# Altium integrated library Analog Devices Data Converters Analog-to-Digital Converters.IntLib: 2404 symbols (part 220 of 346)
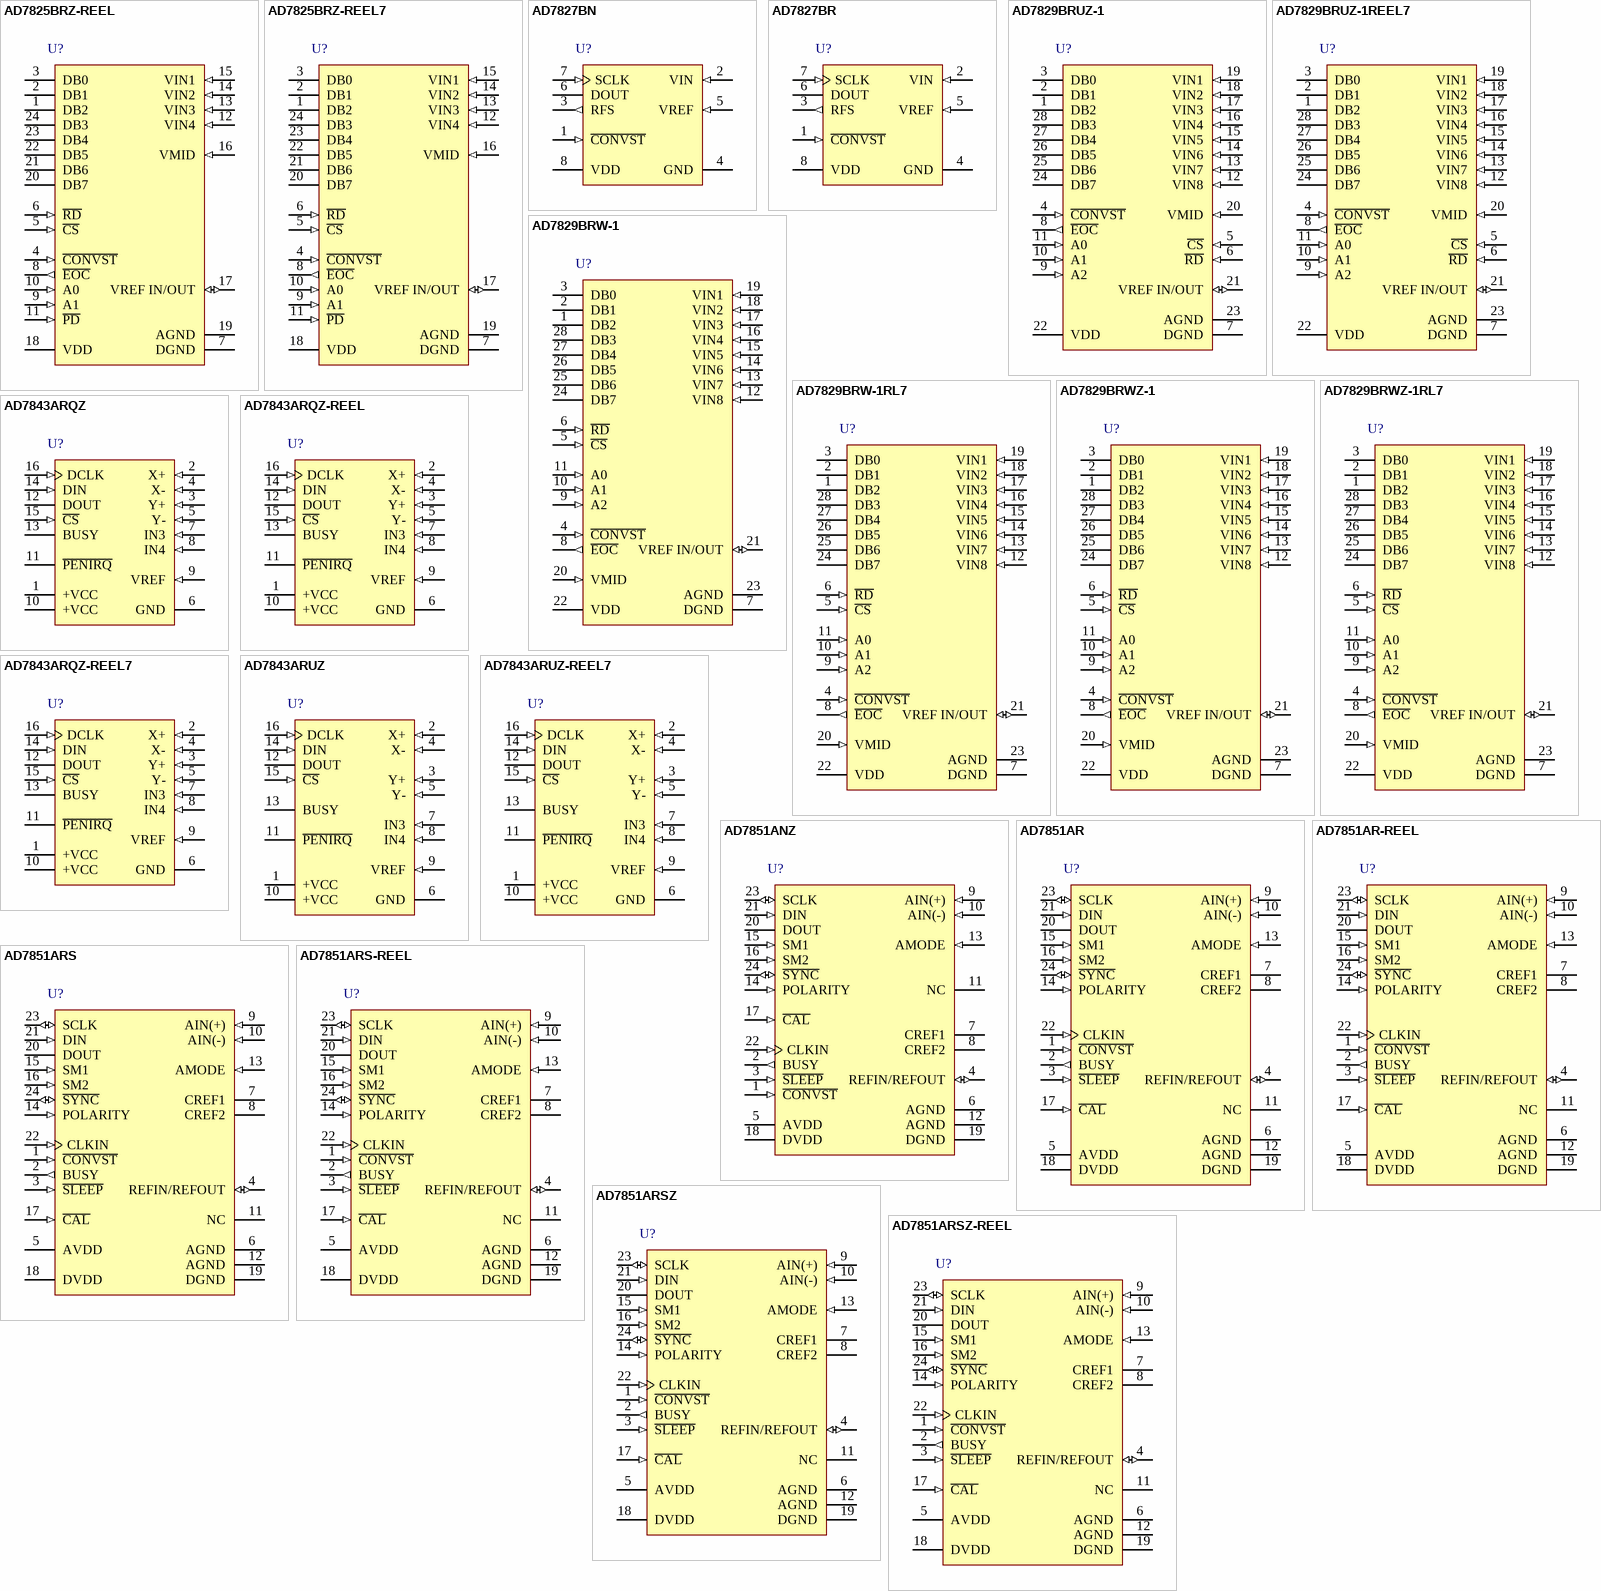
[diagram p273: symbols AD7825BRZ-REEL to AD7851ARSZ-REEL]

## AD7825BRZ-REEL7
designator U?
Quad 8-Bit Sampling Analog-to-Digital Converter with Parallel Interface, 3 V / 5 V, 2MSPS, -40 to +85 degC, RW-24, Pb-Free, Reel; Generic Part Number: AD7825; Manufacturer: Analog Devices; PartNumber: AD7825BRZ-REEL7; Resolution (Bits): 8; Channels: 4; Throughput Rate (SPS): 2M; Interface: Par; DatasheetVersion: Rev.C; PackageVersion: 060706-A; PackageReference: RW-24; PackageDescription: 24-Lead Standard Small Outline Package [SOIC_W]; Supplier 1: Digi-Key; Supplier Part Number 1: AD7825BRZ-REEL7-ND; RoHS: Y; Packing: Reel; Mounting Technology: Surface Mount; Code_JEDEC: MS-013-AD; ComponentLink1Description: Manufacturer URL; ComponentLink1URL: http://www.analog.com/en/index.html; ComponentLink2Description: Datasheet; ComponentLink2URL: http://www.analog.com/static/imported-files/data_sheets/AD7822_7825_7829.pdf; ComponentLink3Description: Package Specification; ComponentLink3URL: http://www.analog.com/static/imported-files/packages/33665150946139RW_24.pdf; ComponentLink4Description: Product URL; ComponentLink4URL: http://www.analog.com/en/analog-to-digital-converters/ad-converters/ad7825/products/product.html
footprint RW-24_N (SOIC, 24-Leads, Body 15.4x7.5mm, Pitch 1.27mm, IPC Medium Density)
footprint RW-24_L (SOIC, 24-Leads, Body 15.4x7.5mm, Pitch 1.27mm, IPC High Density)
footprint RW-24_M (SOIC, 24-Leads, Body 15.4x7.5mm, Pitch 1.27mm, IPC Low Density)
pins: 1 DB2 (hiz) "Data Output Lines. They are normally held in a high impedance state. Data is driven onto the data bus when both R\D\ and C\S\ go active low.", 2 DB1 (hiz) "Data Output Lines. They are normally held in a high impedance state. Data is driven onto the data bus when both R\D\ and C\S\ go active low.", 3 DB0 (hiz) "Data Output Lines. They are normally held in a high impedance state. Data is driven onto the data bus when both R\D\ and C\S\ go active low.", 4 ~{CONVST} (in) "Logic Input Signal. The convert start signal initiates an 8-bit analog-to-digital conversion on the falling edge of this signal. The falling edge of this signal places the track-and-hold in hold mode. The track-and-hold goes (See Datasheet)", 5 ~{CS} (in) "Logic Input Signal. The chip select signal is used to enable the parallel port of the AD7822/AD7825/AD7829. This is necessary if the ADC is sharing a common data bus with another device.", 6 ~{RD} (in) "Logic Input Signal. The read signal is used to take the output buffers out of their high impedance state and drive data onto the data bus. The signal is internally gated with the C\S\ signal. Both R\D\ and C\S\ must be logic (See Datasheet)", 7 DGND (power) "Digital Ground. Ground reference for digital circuitry.", 8 ~{EOC} (out) "Logic Output. The end-of-conversion signal indicates when a conversion has finished. The signal can be used to interrupt a microcontroller when a conversion has finished or latch data into a gate array (see the Parallel (See Datasheet)", 9 A1 (in) "Channel Address Inputs. The address of the next multiplexer channel must be present on these inputs when the R\D\ signal goes low.", 10 A0 (in) "Channel Address Inputs. The address of the next multiplexer channel must be present on these inputs when the R\D\ signal goes low.", 11 ~{PD} (in) "Logic Input. The power-down pin is present on the AD7822 and AD7825 only. Bringing the P\D\ pin low places the AD7822 and AD7825 in power-down mode. The ADCs power up when P\D\ is brought logic high again.", 12 VIN4 (in) "Analog Input Channels. The AD7822 has a single input channel; the AD7825 and AD7829 have four and eight analog input channels, respectively. The inputs have an input span of 2.5 V and 2 V depending on the supply voltage (See Datasheet)", 13 VIN3 (in) "Analog Input Channels. The AD7822 has a single input channel; the AD7825 and AD7829 have four and eight analog input channels, respectively. The inputs have an input span of 2.5 V and 2 V depending on the supply voltage (See Datasheet)", 14 VIN2 (in) "Analog Input Channels. The AD7822 has a single input channel; the AD7825 and AD7829 have four and eight analog input channels, respectively. The inputs have an input span of 2.5 V and 2 V depending on the supply voltage (See Datasheet)", 15 VIN1 (in) "Analog Input Channels. The AD7822 has a single input channel; the AD7825 and AD7829 have four and eight analog input channels, respectively. The inputs have an input span of 2.5 V and 2 V depending on the supply voltage (See Datasheet)", 16 VMID (in) "The VMID pin, if connected, is used to center the analog input span anywhere in the range of AGND to VDD (see the Analog Input section).", 17 VREF IN/OUT (io) "Analog Input and Output. An external reference can be connected to the AD7822/AD7825/AD7829 at this pin. The on-chip reference is also available at this pin. When using the internal reference, this pin can be left (See Datasheet)", 18 VDD (power) "Positive Supply Voltage, 3 V +/- 10% and 5 V +/- 10%.", 19 AGND (power) "Analog Ground. Ground reference for track-and-hold, comparators, reference circuit, and multiplexer.", 20 DB7 (hiz) "Data Output Lines. They are normally held in a high impedance state. Data is driven onto the data bus when both R\D\ and C\S\ go active low.", 21 DB6 (hiz) "Data Output Lines. They are normally held in a high impedance state. Data is driven onto the data bus when both R\D\ and C\S\ go active low.", 22 DB5 (hiz) "Data Output Lines. They are normally held in a high impedance state. Data is driven onto the data bus when both R\D\ and C\S\ go active low.", 23 DB4 (hiz) "Data Output Lines. They are normally held in a high impedance state. Data is driven onto the data bus when both R\D\ and C\S\ go active low.", 24 DB3 (hiz) "Data Output Lines. They are normally held in a high impedance state. Data is driven onto the data bus when both R\D\ and C\S\ go active low."

## AD7827BN
designator U?
Single 8-Bit Sampling Analog-to-Digital Converter with Serial Interface, 3 V / 5 V, 1MSPS, -40 to +105 degC, N-8; Generic Part Number: AD7827; Manufacturer: Analog Devices; PartNumber: AD7827BN; Resolution (Bits): 8; Channels: 1; Throughput Rate (SPS): 1M; Interface: Ser; DatasheetVersion: Rev.0; PackageVersion: 070606-A; PackageReference: N-8; PackageDescription: 8-Lead Plastic Dual In-Line Package [PDIP] Narrow Body; RoHS: N; Mounting Technology: Through-hole; Code_JEDEC: MS-001; ComponentLink1Description: Manufacturer URL; ComponentLink1URL: http://www.analog.com/en/index.html; ComponentLink2Description: Datasheet; ComponentLink2URL: http://www.analog.com/static/imported-files/data_sheets/AD7827.pdf; ComponentLink3Description: Package Specification; ComponentLink3URL: http://www.analog.com/static/imported-files/packages/PKG_PDF/PDIP(N)/N_8.pdf; ComponentLink4Description: Product URL; ComponentLink4URL: http://www.analog.com/en/analog-to-digital-converters/ad-converters/ad7827/products/product.html
footprint N-8 (DIP, 8-Leads, Row Spacing 7.62mm, Pitch 2.54mm, Body 9.6x6.6mm)
pins: 1 ~{CONVST} (in) "Convert Start.Puts the track-and-hold into hold mode and initiates a conversion.The state of this pin at the end of conversion also determines whether or not the part is powered down.", 2 VIN (in) "Analog Input is applied here.", 3 RFS (out) "Receive Frame Sync. This is an output. When this signal goes logic high at the end of a conversion, the DSP starts latching in data on the next cycle of SCLK.", 4 GND (power) "Ground reference for analog and digital circuitry.", 5 VREF (in) "Reference Input.", 6 DOUT (hiz) "Serial Data is shifted out on this pin.Data is clocked out by the rising edges of SCLK.", 7 SCLK (in) "SCLK Serial Clock. An external serial clock is applied here. The clock must be continuous so the RFS (frame SYNC) can be synchronized to the clock for high speed data transfers. (See Microprocessor Interfacing section.)", 8 VDD (power) "Positive Supply Voltage 3 V/5 V +/- 10%."

## AD7827BR
designator U?
Single 8-Bit Sampling Analog-to-Digital Converter with Serial Interface, 3 V / 5 V, 1MSPS, -40 to +105 degC, SO-8; Generic Part Number: AD7827; Manufacturer: Analog Devices; PartNumber: AD7827BR; Resolution (Bits): 8; Channels: 1; Throughput Rate (SPS): 1M; Interface: Ser; DatasheetVersion: Rev.0; PackageVersion: 2010; PackageReference: SO-8; PackageDescription: 8-Pin Small Outline Integrated Circuit 1.27 mm Pitch, Narrow Body; RoHS: N; Mounting Technology: Surface Mount; Code_JEDEC: MS-012-AA; Code_IPC: SOIC127P600-8; ComponentLink1Description: Manufacturer URL; ComponentLink1URL: http://www.analog.com/en/index.html; ComponentLink2Description: Datasheet; ComponentLink2URL: http://www.analog.com/static/imported-files/data_sheets/AD7827.pdf; ComponentLink3Description: Package Specification; ComponentLink3URL: SO-8; ComponentLink4Description: Product URL; ComponentLink4URL: http://www.analog.com/en/analog-to-digital-converters/ad-converters/ad7827/products/product.html
footprint SO-8_N (SOIC, 8-Leads, Body 4.9x3.9mm, Pitch 1.27mm, IPC Medium Density)
footprint SO-8_L (SOIC, 8-Leads, Body 4.9x3.9mm, Pitch 1.27mm, IPC High Density)
footprint SO-8_M (SOIC, 8-Leads, Body 4.9x3.9mm, Pitch 1.27mm, IPC Low Density)
pins: 1 ~{CONVST} (in) "Convert Start.Puts the track-and-hold into hold mode and initiates a conversion.The state of this pin at the end of conversion also determines whether or not the part is powered down.", 2 VIN (in) "Analog Input is applied here.", 3 RFS (out) "Receive Frame Sync. This is an output. When this signal goes logic high at the end of a conversion, the DSP starts latching in data on the next cycle of SCLK.", 4 GND (power) "GND Ground reference for analog and digital circuitry.", 5 VREF (in) "Reference Input.", 6 DOUT (hiz) "Serial Data is shifted out on this pin.Data is clocked out by the rising edges of SCLK.", 7 SCLK (in) "SCLK Serial Clock. An external serial clock is applied here. The clock must be continuous so the RFS (frame SYNC) can be synchronized to the clock for high speed data transfers. (See Microprocessor Interfacing section.)", 8 VDD (power) "Positive Supply Voltage 3 V/5 V +/- 10%."

## AD7829BRUZ-1
designator U?
Octal 8-Bit Analog-to-Digital Converter with Parallel Interface,3 V, 2MSPS, -40 to +85 degC, RU-28, Pb-Free, Tube; Generic Part Number: AD7829-1; Manufacturer: Analog Devices; PartNumber: AD7829BRUZ-1; Resolution (Bits): 8; Throughput Rate (SPS): 2M; Interface: Par; DatasheetVersion: Rev.0; PackageVersion: 2005; PackageReference: RU-28; PackageDescription: 28-Lead Thin Shrink Small Outline Package [TSSOP]; Supplier 1: Digi-Key; Supplier Part Number 1: AD7829BRUZ-1-ND; Supplier 2: Mouser; Supplier Part Number 2: 584-AD7829BRUZ-1; Channels: 8; RoHS: Y; Packing: Tube; Mounting Technology: Surface Mount; Code_JEDEC: MO-153-AE; ComponentLink1Description: Manufacturer URL; ComponentLink1URL: http://www.analog.com/en/index.html; ComponentLink2Description: Datasheet; ComponentLink2URL: http://www.analog.com/static/imported-files/data_sheets/AD7829-1.pdf; ComponentLink3Description: Package Specification; ComponentLink3URL: http://www.analog.com/static/imported-files/packages/249854663RU_28.pdf; ComponentLink4Description: Product URL; ComponentLink4URL: http://www.analog.com/en/analog-to-digital-converters/ad-converters/ad7829-1/products/product.html
footprint RU-28_N (TSOP, 28-Leads, Body 9.7x4.4mm, Pitch 0.65mm, IPC Medium Density)
footprint RU-28_L (TSOP, 28-Leads, Body 9.7x4.4mm, Pitch 0.65mm, IPC High Density)
footprint RU-28_M (TSOP, 28-Leads, Body 9.7x4.4mm, Pitch 0.65mm, IPC Low Density)
pins: 1 DB2 (hiz) "Data Output Lines. They are normally held in a high impedance state. Data is driven onto the data bus when both R\D\ and C\S\ go active low.", 2 DB1 (hiz) "Data Output Lines. They are normally held in a high impedance state. Data is driven onto the data bus when both R\D\ and C\S\ go active low.", 3 DB0 (hiz) "Data Output Lines. They are normally held in a high impedance state. Data is driven onto the data bus when both R\D\ and C\S\ go active low.", 4 ~{CONVST} (in) "Logic Input Signal. The convert start signal initiates an 8-bit analog-to-digital conversion on the falling edge  of this signal. The falling edge of this signal places the track/hold in hold mode. The track/hold goes into (See Datasheet)", 5 ~{CS} (in) "Logic Input Signal. The chip select signal is used to enable the parallel port of the AD7829. This is necessary if the ADC is sharing a common data bus with another device.", 6 ~{RD} (in) "Logic Input Signal. The read signal is used to take the output buffers out of their high impedance state and drive data onto the data bus. The signal is internally gated with the CS signal. Both R\D\ and C\S\ must be logic (See Datasheet)", 7 DGND (power) "Digital Ground. Ground reference for digital circuitry.", 8 ~{EOC} (out) "Logic Output. The end of conversion signal indicates when a conversion has finished. The signal can be used  to interrupt a microcontroller when a conversion has finished or latch data into a gate array (see the Parallel (See Datasheet)", 9 A2 (in) "Channel Address Inputs. The address of the next multiplexer channel must be present on these inputs when the R\D\ signal goes low.", 10 A1 (in) "Channel Address Inputs. The address of the next multiplexer channel must be present on these inputs when the R\D\ signal goes low.", 11 A0 (in) "Channel Address Inputs. The address of the next multiplexer channel must be present on these inputs when the R\D\ signal goes low.", 12 VIN8 (in) "Analog Input Channels. The AD7829-1 has eight analog input channels. The inputs have an input span of 2.5 V and 2 V, depending on the supply voltage (VDD). This span can be centered anywhere in the range AGND to VDD using (See Datasheet)", 13 VIN7 (in) "Analog Input Channels. The AD7829-1 has eight analog input channels. The inputs have an input span of 2.5 V and 2 V, depending on the supply voltage (VDD). This span can be centered anywhere in the range AGND to VDD using (See Datasheet)", 14 VIN6 (in) "Analog Input Channels. The AD7829-1 has eight analog input channels. The inputs have an input span of 2.5 V and 2 V, depending on the supply voltage (VDD). This span can be centered anywhere in the range AGND to VDD using (See Datasheet)", 15 VIN5 (in) "Analog Input Channels. The AD7829-1 has eight analog input channels. The inputs have an input span of 2.5 V and 2 V, depending on the supply voltage (VDD). This span can be centered anywhere in the range AGND to VDD using (See Datasheet)", 16 VIN4 (in) "Analog Input Channels. The AD7829-1 has eight analog input channels. The inputs have an input span of 2.5 V and 2 V, depending on the supply voltage (VDD). This span can be centered anywhere in the range AGND to VDD using (See Datasheet)", 17 VIN3 (in) "Analog Input Channels. The AD7829-1 has eight analog input channels. The inputs have an input span of 2.5 V and 2 V, depending on the supply voltage (VDD). This span can be centered anywhere in the range AGND to VDD using (See Datasheet)", 18 VIN2 (in) "Analog Input Channels. The AD7829-1 has eight analog input channels. The inputs have an input span of 2.5 V and 2 V, depending on the supply voltage (VDD). This span can be centered anywhere in the range AGND to VDD using (See Datasheet)", 19 VIN1 (in) "Analog Input Channels. The AD7829-1 has eight analog input channels. The inputs have an input span of 2.5 V and 2 V, depending on the supply voltage (VDD). This span can be centered anywhere in the range AGND to VDD using (See Datasheet)", 20 VMID (in) "The VMID pin, if connected, is used to center the analog input span anywhere in the range of AGND to VDD (see the Analog Input section).", 21 VREF IN/OUT (io) "Analog Input and Output. An external reference can be connected to the AD7829-1 at this pin. The on-chip reference is also available at this pin. When using the internal reference, this pin can be left unconnected or, in (See Datasheet)", 22 VDD (power) "Positive Supply Voltage, 3 V +/- 10% and 5 V +/- 10%.", 23 AGND (power) "Analog Ground. Ground reference for track/hold, comparators, reference circuit, and multiplexer.", 24 DB7 (hiz) "Data Output Lines. They are normally held in a high impedance state. Data is driven onto the data bus when both R\D\ and C\S\ go active low.", 25 DB6 (hiz) "Data Output Lines. They are normally held in a high impedance state. Data is driven onto the data bus when both R\D\ and C\S\ go active low.", 26 DB5 (hiz) "Data Output Lines. They are normally held in a high impedance state. Data is driven onto the data bus when both R\D\ and C\S\ go active low.", 27 DB4 (hiz) "Data Output Lines. They are normally held in a high impedance state. Data is driven onto the data bus when both R\D\ and C\S\ go active low.", 28 DB3 (hiz) "Data Output Lines. They are normally held in a high impedance state. Data is driven onto the data bus when both R\D\ and C\S\ go active low."

## AD7829BRUZ-1REEL7
designator U?
Octal 8-Bit Analog-to-Digital Converter with Parallel Interface,3 V, 2MSPS, -40 to +85 degC, RU-28, Pb-Free, Reel; Generic Part Number: AD7829-1; Manufacturer: Analog Devices; PartNumber: AD7829BRUZ-1REEL7; Resolution (Bits): 8; Throughput Rate (SPS): 2M; Interface: Par; DatasheetVersion: Rev.0; PackageVersion: 2005; PackageReference: RU-28; PackageDescription: 28-Lead Thin Shrink Small Outline Package [TSSOP]; Supplier 1: Digi-Key; Supplier Part Number 1: AD7829BRUZ-1REEL7-ND; Supplier 2: Mouser; Supplier Part Number 2: 584-AD7829BRUZ-1R7; Channels: 8; RoHS: Y; Packing: Reel; Mounting Technology: Surface Mount; Code_JEDEC: MO-153-AE; ComponentLink1Description: Manufacturer URL; ComponentLink1URL: http://www.analog.com/en/index.html; ComponentLink2Description: Datasheet; ComponentLink2URL: http://www.analog.com/static/imported-files/data_sheets/AD7829-1.pdf; ComponentLink3Description: Package Specification; ComponentLink3URL: http://www.analog.com/static/imported-files/packages/249854663RU_28.pdf; ComponentLink4Description: Product URL; ComponentLink4URL: http://www.analog.com/en/analog-to-digital-converters/ad-converters/ad7829-1/products/product.html
footprint RU-28_N (TSOP, 28-Leads, Body 9.7x4.4mm, Pitch 0.65mm, IPC Medium Density)
footprint RU-28_L (TSOP, 28-Leads, Body 9.7x4.4mm, Pitch 0.65mm, IPC High Density)
footprint RU-28_M (TSOP, 28-Leads, Body 9.7x4.4mm, Pitch 0.65mm, IPC Low Density)
pins: 1 DB2 (hiz) "Data Output Lines. They are normally held in a high impedance state. Data is driven onto the data bus when both R\D\ and C\S\ go active low.", 2 DB1 (hiz) "Data Output Lines. They are normally held in a high impedance state. Data is driven onto the data bus when both R\D\ and C\S\ go active low.", 3 DB0 (hiz) "Data Output Lines. They are normally held in a high impedance state. Data is driven onto the data bus when both R\D\ and C\S\ go active low.", 4 ~{CONVST} (in) "Logic Input Signal. The convert start signal initiates an 8-bit analog-to-digital conversion on the falling edge  of this signal. The falling edge of this signal places the track/hold in hold mode. The track/hold goes into (See Datasheet)", 5 ~{CS} (in) "Logic Input Signal. The chip select signal is used to enable the parallel port of the AD7829. This is necessary if the ADC is sharing a common data bus with another device.", 6 ~{RD} (in) "Logic Input Signal. The read signal is used to take the output buffers out of their high impedance state and drive data onto the data bus. The signal is internally gated with the CS signal. Both R\D\ and C\S\ must be logic (See Datasheet)", 7 DGND (power) "Digital Ground. Ground reference for digital circuitry.", 8 ~{EOC} (out) "Logic Output. The end of conversion signal indicates when a conversion has finished. The signal can be used  to interrupt a microcontroller when a conversion has finished or latch data into a gate array (see the Parallel (See Datasheet)", 9 A2 (in) "Channel Address Inputs. The address of the next multiplexer channel must be present on these inputs when the R\D\ signal goes low.", 10 A1 (in) "Channel Address Inputs. The address of the next multiplexer channel must be present on these inputs when the R\D\ signal goes low.", 11 A0 (in) "Channel Address Inputs. The address of the next multiplexer channel must be present on these inputs when the R\D\ signal goes low.", 12 VIN8 (in) "Analog Input Channels. The AD7829-1 has eight analog input channels. The inputs have an input span of 2.5 V and 2 V, depending on the supply voltage (VDD). This span can be centered anywhere in the range AGND to VDD using (See Datasheet)", 13 VIN7 (in) "Analog Input Channels. The AD7829-1 has eight analog input channels. The inputs have an input span of 2.5 V and 2 V, depending on the supply voltage (VDD). This span can be centered anywhere in the range AGND to VDD using (See Datasheet)", 14 VIN6 (in) "Analog Input Channels. The AD7829-1 has eight analog input channels. The inputs have an input span of 2.5 V and 2 V, depending on the supply voltage (VDD). This span can be centered anywhere in the range AGND to VDD using (See Datasheet)", 15 VIN5 (in) "Analog Input Channels. The AD7829-1 has eight analog input channels. The inputs have an input span of 2.5 V and 2 V, depending on the supply voltage (VDD). This span can be centered anywhere in the range AGND to VDD using (See Datasheet)", 16 VIN4 (in) "Analog Input Channels. The AD7829-1 has eight analog input channels. The inputs have an input span of 2.5 V and 2 V, depending on the supply voltage (VDD). This span can be centered anywhere in the range AGND to VDD using (See Datasheet)", 17 VIN3 (in) "Analog Input Channels. The AD7829-1 has eight analog input channels. The inputs have an input span of 2.5 V and 2 V, depending on the supply voltage (VDD). This span can be centered anywhere in the range AGND to VDD using (See Datasheet)", 18 VIN2 (in) "Analog Input Channels. The AD7829-1 has eight analog input channels. The inputs have an input span of 2.5 V and 2 V, depending on the supply voltage (VDD). This span can be centered anywhere in the range AGND to VDD using (See Datasheet)", 19 VIN1 (in) "Analog Input Channels. The AD7829-1 has eight analog input channels. The inputs have an input span of 2.5 V and 2 V, depending on the supply voltage (VDD). This span can be centered anywhere in the range AGND to VDD using (See Datasheet)", 20 VMID (in) "The VMID pin, if connected, is used to center the analog input span anywhere in the range of AGND to VDD (see the Analog Input section).", 21 VREF IN/OUT (io) "Analog Input and Output. An external reference can be connected to the AD7829-1 at this pin. The on-chip reference is also available at this pin. When using the internal reference, this pin can be left unconnected or, in (See Datasheet)", 22 VDD (power) "Positive Supply Voltage, 3 V +/- 10% and 5 V +/- 10%.", 23 AGND (power) "Analog Ground. Ground reference for track/hold, comparators, reference circuit, and multiplexer.", 24 DB7 (hiz) "Data Output Lines. They are normally held in a high impedance state. Data is driven onto the data bus when both R\D\ and C\S\ go active low.", 25 DB6 (hiz) "Data Output Lines. They are normally held in a high impedance state. Data is driven onto the data bus when both R\D\ and C\S\ go active low.", 26 DB5 (hiz) "Data Output Lines. They are normally held in a high impedance state. Data is driven onto the data bus when both R\D\ and C\S\ go active low.", 27 DB4 (hiz) "Data Output Lines. They are normally held in a high impedance state. Data is driven onto the data bus when both R\D\ and C\S\ go active low.", 28 DB3 (hiz) "Data Output Lines. They are normally held in a high impedance state. Data is driven onto the data bus when both R\D\ and C\S\ go active low."

## AD7829BRW-1
designator U?
Octal 8-Bit Analog-to-Digital Converter with Parallel Interface,3 V, 2MSPS, -40 to +85 degC, RW-28, Tube; Generic Part Number: AD7829-1; Manufacturer: Analog Devices; PartNumber: AD7829BRW-1; Resolution (Bits): 8; Throughput Rate (SPS): 2M; Interface: Par; DatasheetVersion: Rev.0; PackageVersion: 060706-A; PackageReference: RW-28; PackageDescription: 28-Lead Standard Small Outline Package [SOIC_W]; Supplier 1: Digi-Key; Supplier Part Number 1: AD7829BRW-1-ND; Supplier 2: Mouser; Supplier Part Number 2: 584-AD7829BRW-1; Channels: 8; RoHS: N; Packing: Tube; Mounting Technology: Surface Mount; Code_JEDEC: MS-013-AE; ComponentLink1Description: Manufacturer URL; ComponentLink1URL: http://www.analog.com/en/index.html; ComponentLink2Description: Datasheet; ComponentLink2URL: http://www.analog.com/static/imported-files/data_sheets/AD7829-1.pdf; ComponentLink3Description: Package Specification; ComponentLink3URL: http://www.analog.com/static/imported-files/packages/35833120341221RW_28.pdf; ComponentLink4Description: Product URL; ComponentLink4URL: http://www.analog.com/en/analog-to-digital-converters/ad-converters/ad7829-1/products/product.html
footprint RW-28_N (SOIC, 28-Leads, Body 17.9x7.5mm, Pitch 1.27mm, IPC Medium Density)
footprint RW-28_L (SOIC, 28-Leads, Body 17.9x7.5mm, Pitch 1.27mm, IPC High Density)
footprint RW-28_M (SOIC, 28-Leads, Body 17.9x7.5mm, Pitch 1.27mm, IPC Low Density)
pins: 1 DB2 (hiz) "Data Output Lines. They are normally held in a high impedance state. Data is driven onto the data bus when both R\D\ and C\S\ go active low.", 2 DB1 (hiz) "Data Output Lines. They are normally held in a high impedance state. Data is driven onto the data bus when both R\D\ and C\S\ go active low.", 3 DB0 (hiz) "Data Output Lines. They are normally held in a high impedance state. Data is driven onto the data bus when both R\D\ and C\S\ go active low.", 4 ~{CONVST} (in) "Logic Input Signal. The convert start signal initiates an 8-bit analog-to-digital conversion on the falling edge of this signal. The falling edge of this signal places the track/hold in hold mode. The track/hold goes into (See Datasheet)", 5 ~{CS} (in) "Logic Input Signal. The chip select signal is used to enable the parallel port of the AD7829. This is necessary if the ADC is sharing a common data bus with another device.", 6 ~{RD} (in) "Logic Input Signal. The read signal is used to take the output buffers out of their high impedance state and drive data onto the data bus. The signal is internally gated with the CS signal. Both R\D\ and C\S\ must be logic (See Datasheet)", 7 DGND (power) "Digital Ground. Ground reference for digital circuitry.", 8 ~{EOC} (out) "Logic Output. The end of conversion signal indicates when a conversion has finished. The signal can be used to interrupt a microcontroller when a conversion has finished or latch data into a gate array (see the Parallel (See Datasheet)", 9 A2 (in) "Channel Address Inputs. The address of the next multiplexer channel must be present on these inputs when the R\D\ signal goes low.", 10 A1 (in) "Channel Address Inputs. The address of the next multiplexer channel must be present on these inputs when the R\D\ signal goes low.", 11 A0 (in) "Channel Address Inputs. The address of the next multiplexer channel must be present on these inputs when the R\D\ signal goes low.", 12 VIN8 (in) "Analog Input Channels. The AD7829-1 has eight analog input channels. The inputs have an input span of 2.5 V and 2 V, depending on the supply voltage (VDD). This span can be centered anywhere in the range AGND to VDD using (See Datasheet)", 13 VIN7 (in) "Analog Input Channels. The AD7829-1 has eight analog input channels. The inputs have an input span of 2.5 V and 2 V, depending on the supply voltage (VDD). This span can be centered anywhere in the range AGND to VDD using (See Datasheet)", 14 VIN6 (in) "Analog Input Channels. The AD7829-1 has eight analog input channels. The inputs have an input span of 2.5 V and 2 V, depending on the supply voltage (VDD). This span can be centered anywhere in the range AGND to VDD using (See Datasheet)", 15 VIN5 (in) "Analog Input Channels. The AD7829-1 has eight analog input channels. The inputs have an input span of 2.5 V and 2 V, depending on the supply voltage (VDD). This span can be centered anywhere in the range AGND to VDD using (See Datasheet)", 16 VIN4 (in) "Analog Input Channels. The AD7829-1 has eight analog input channels. The inputs have an input span of 2.5 V and 2 V, depending on the supply voltage (VDD). This span can be centered anywhere in the range AGND to VDD using (See Datasheet)", 17 VIN3 (in) "Analog Input Channels. The AD7829-1 has eight analog input channels. The inputs have an input span of 2.5 V and 2 V, depending on the supply voltage (VDD). This span can be centered anywhere in the range AGND to VDD using (See Datasheet)", 18 VIN2 (in) "Analog Input Channels. The AD7829-1 has eight analog input channels. The inputs have an input span of 2.5 V and 2 V, depending on the supply voltage (VDD). This span can be centered anywhere in the range AGND to VDD using (See Datasheet)", 19 VIN1 (in) "Analog Input Channels. The AD7829-1 has eight analog input channels. The inputs have an input span of 2.5 V and 2 V, depending on the supply voltage (VDD). This span can be centered anywhere in the range AGND to VDD using (See Datasheet)", 20 VMID (in) "The VMID pin, if connected, is used to center the analog input span anywhere in the range of AGND to VDD (see the Analog Input section).", 21 VREF IN/OUT (io) "Analog Input and Output. An external reference can be connected to the AD7829-1 at this pin. The on-chip reference is also available at this pin. When using the internal reference, this pin can be left unconnected or, in (See Datasheet)", 22 VDD (power) "Positive Supply Voltage, 3 V +/- 10% and 5 V +/- 10%.", 23 AGND (power) "Analog Ground. Ground reference for track/hold, comparators, reference circuit, and multiplexer.", 24 DB7 (hiz) "Data Output Lines. They are normally held in a high impedance state. Data is driven onto the data bus when both R\D\ and C\S\ go active low.", 25 DB6 (hiz) "Data Output Lines. They are normally held in a high impedance state. Data is driven onto the data bus when both R\D\ and C\S\ go active low.", 26 DB5 (hiz) "Data Output Lines. They are normally held in a high impedance state. Data is driven onto the data bus when both R\D\ and C\S\ go active low.", 27 DB4 (hiz) "Data Output Lines. They are normally held in a high impedance state. Data is driven onto the data bus when both R\D\ and C\S\ go active low.", 28 DB3 (hiz) "Data Output Lines. They are normally held in a high impedance state. Data is driven onto the data bus when both R\D\ and C\S\ go active low."

## AD7829BRW-1RL7
designator U?
Octal 8-Bit Analog-to-Digital Converter with Parallel Interface,3 V, 2MSPS, -40 to +85 degC, RW-28,Reel; Generic Part Number: AD7829-1; Manufacturer: Analog Devices; PartNumber: AD7829BRW-1RL7; Resolution (Bits): 8; Throughput Rate (SPS): 2M; Interface: Par; DatasheetVersion: Rev.0; PackageVersion: 060706-A; PackageReference: RW-28; PackageDescription: 28-Lead Standard Small Outline Package [SOIC_W]; Supplier 1: Digi-Key; Supplier Part Number 1: AD7829BRW-1RL7-ND; Supplier 2: Newark; Supplier Part Number 2: 28M4073; Channels: 8; RoHS: N; Packing: Reel; Mounting Technology: Surface Mount; Code_JEDEC: MS-013-AE; ComponentLink1Description: Manufacturer URL; ComponentLink1URL: http://www.analog.com/en/index.html; ComponentLink2Description: Datasheet; ComponentLink2URL: http://www.analog.com/static/imported-files/data_sheets/AD7829-1.pdf; ComponentLink3Description: Package Specification; ComponentLink3URL: http://www.analog.com/static/imported-files/packages/35833120341221RW_28.pdf; ComponentLink4Description: Product URL; ComponentLink4URL: http://www.analog.com/en/analog-to-digital-converters/ad-converters/ad7829-1/products/product.html
footprint RW-28_N (SOIC, 28-Leads, Body 17.9x7.5mm, Pitch 1.27mm, IPC Medium Density)
footprint RW-28_L (SOIC, 28-Leads, Body 17.9x7.5mm, Pitch 1.27mm, IPC High Density)
footprint RW-28_M (SOIC, 28-Leads, Body 17.9x7.5mm, Pitch 1.27mm, IPC Low Density)
pins: 1 DB2 (hiz) "Data Output Lines. They are normally held in a high impedance state. Data is driven onto the data bus when both R\D\ and C\S\ go active low.", 2 DB1 (hiz) "Data Output Lines. They are normally held in a high impedance state. Data is driven onto the data bus when both R\D\ and C\S\ go active low.", 3 DB0 (hiz) "Data Output Lines. They are normally held in a high impedance state. Data is driven onto the data bus when both R\D\ and C\S\ go active low.", 4 ~{CONVST} (in) "Logic Input Signal. The convert start signal initiates an 8-bit analog-to-digital conversion on the falling edge of this signal. The falling edge of this signal places the track/hold in hold mode. The track/hold goes into (See Datasheet)", 5 ~{CS} (in) "Logic Input Signal. The chip select signal is used to enable the parallel port of the AD7829. This is necessary if the ADC is sharing a common data bus with another device.", 6 ~{RD} (in) "Logic Input Signal. The read signal is used to take the output buffers out of their high impedance state and drive data onto the data bus. The signal is internally gated with the CS signal. Both R\D\ and C\S\ must be logic (See Datasheet)", 7 DGND (power) "Digital Ground. Ground reference for digital circuitry.", 8 ~{EOC} (out) "Logic Output. The end of conversion signal indicates when a conversion has finished. The signal can be used to interrupt a microcontroller when a conversion has finished or latch data into a gate array (see the Parallel (See Datasheet)", 9 A2 (in) "Channel Address Inputs. The address of the next multiplexer channel must be present on these inputs when the R\D\ signal goes low.", 10 A1 (in) "Channel Address Inputs. The address of the next multiplexer channel must be present on these inputs when the R\D\ signal goes low.", 11 A0 (in) "Channel Address Inputs. The address of the next multiplexer channel must be present on these inputs when the R\D\ signal goes low.", 12 VIN8 (in) "Analog Input Channels. The AD7829-1 has eight analog input channels. The inputs have an input span of 2.5 V and 2 V, depending on the supply voltage (VDD). This span can be centered anywhere in the range AGND to VDD using (See Datasheet)", 13 VIN7 (in) "Analog Input Channels. The AD7829-1 has eight analog input channels. The inputs have an input span of 2.5 V and 2 V, depending on the supply voltage (VDD). This span can be centered anywhere in the range AGND to VDD using (See Datasheet)", 14 VIN6 (in) "Analog Input Channels. The AD7829-1 has eight analog input channels. The inputs have an input span of 2.5 V and 2 V, depending on the supply voltage (VDD). This span can be centered anywhere in the range AGND to VDD using (See Datasheet)", 15 VIN5 (in) "Analog Input Channels. The AD7829-1 has eight analog input channels. The inputs have an input span of 2.5 V and 2 V, depending on the supply voltage (VDD). This span can be centered anywhere in the range AGND to VDD using (See Datasheet)", 16 VIN4 (in) "Analog Input Channels. The AD7829-1 has eight analog input channels. The inputs have an input span of 2.5 V and 2 V, depending on the supply voltage (VDD). This span can be centered anywhere in the range AGND to VDD using (See Datasheet)", 17 VIN3 (in) "Analog Input Channels. The AD7829-1 has eight analog input channels. The inputs have an input span of 2.5 V and 2 V, depending on the supply voltage (VDD). This span can be centered anywhere in the range AGND to VDD using (See Datasheet)", 18 VIN2 (in) "Analog Input Channels. The AD7829-1 has eight analog input channels. The inputs have an input span of 2.5 V and 2 V, depending on the supply voltage (VDD). This span can be centered anywhere in the range AGND to VDD using (See Datasheet)", 19 VIN1 (in) "Analog Input Channels. The AD7829-1 has eight analog input channels. The inputs have an input span of 2.5 V and 2 V, depending on the supply voltage (VDD). This span can be centered anywhere in the range AGND to VDD using (See Datasheet)", 20 VMID (in) "The VMID pin, if connected, is used to center the analog input span anywhere in the range of AGND to VDD (see the Analog Input section).", 21 VREF IN/OUT (io) "Analog Input and Output. An external reference can be connected to the AD7829-1 at this pin. The on-chip reference is also available at this pin. When using the internal reference, this pin can be left unconnected or, in (See Datasheet)", 22 VDD (power) "Positive Supply Voltage, 3 V +/- 10% and 5 V +/- 10%.", 23 AGND (power) "Analog Ground. Ground reference for track/hold, comparators, reference circuit, and multiplexer.", 24 DB7 (hiz) "Data Output Lines. They are normally held in a high impedance state. Data is driven onto the data bus when both R\D\ and C\S\ go active low.", 25 DB6 (hiz) "Data Output Lines. They are normally held in a high impedance state. Data is driven onto the data bus when both R\D\ and C\S\ go active low.", 26 DB5 (hiz) "Data Output Lines. They are normally held in a high impedance state. Data is driven onto the data bus when both R\D\ and C\S\ go active low.", 27 DB4 (hiz) "Data Output Lines. They are normally held in a high impedance state. Data is driven onto the data bus when both R\D\ and C\S\ go active low.", 28 DB3 (hiz) "Data Output Lines. They are normally held in a high impedance state. Data is driven onto the data bus when both R\D\ and C\S\ go active low."

## AD7829BRWZ-1
designator U?
Octal 8-Bit Analog-to-Digital Converter with Parallel Interface,3 V, 2MSPS, -40 to +85 degC, RW-28, Pb-Free, Tube; Generic Part Number: AD7829-1; Manufacturer: Analog Devices; PartNumber: AD7829BRWZ-1; Resolution (Bits): 8; Throughput Rate (SPS): 2M; Interface: Par; DatasheetVersion: Rev.0; PackageVersion: 060706-A; PackageReference: RW-28; PackageDescription: 28-Lead Standard Small Outline Package [SOIC_W]; Supplier 1: Digi-Key; Supplier Part Number 1: AD7829BRWZ-1-ND; Supplier 2: Farnell; Supplier Part Number 2: 1498673; Supplier 3: Newark; Supplier Part Number 3: 28M4074; Supplier 4: Mouser; Supplier Part Number 4: 584-AD7829BRWZ-1; Channels: 8; RoHS: Y; Packing: Tube; Mounting Technology: Surface Mount; Code_JEDEC: MS-013-AE; ComponentLink1Description: Manufacturer URL; ComponentLink1URL: http://www.analog.com/en/index.html; ComponentLink2Description: Datasheet; ComponentLink2URL: http://www.analog.com/static/imported-files/data_sheets/AD7829-1.pdf; ComponentLink3Description: Package Specification; ComponentLink3URL: http://www.analog.com/static/imported-files/packages/35833120341221RW_28.pdf; ComponentLink4Description: Product URL; ComponentLink4URL: http://www.analog.com/en/analog-to-digital-converters/ad-converters/ad7829-1/products/product.html
footprint RW-28_N (SOIC, 28-Leads, Body 17.9x7.5mm, Pitch 1.27mm, IPC Medium Density)
footprint RW-28_L (SOIC, 28-Leads, Body 17.9x7.5mm, Pitch 1.27mm, IPC High Density)
footprint RW-28_M (SOIC, 28-Leads, Body 17.9x7.5mm, Pitch 1.27mm, IPC Low Density)
pins: 1 DB2 (hiz) "Data Output Lines. They are normally held in a high impedance state. Data is driven onto the data bus when both R\D\ and C\S\ go active low.", 2 DB1 (hiz) "Data Output Lines. They are normally held in a high impedance state. Data is driven onto the data bus when both R\D\ and C\S\ go active low.", 3 DB0 (hiz) "Data Output Lines. They are normally held in a high impedance state. Data is driven onto the data bus when both R\D\ and C\S\ go active low.", 4 ~{CONVST} (in) "Logic Input Signal. The convert start signal initiates an 8-bit analog-to-digital conversion on the falling edge of this signal. The falling edge of this signal places the track/hold in hold mode. The track/hold goes into (See Datasheet)", 5 ~{CS} (in) "Logic Input Signal. The chip select signal is used to enable the parallel port of the AD7829. This is necessary if the ADC is sharing a common data bus with another device.", 6 ~{RD} (in) "Logic Input Signal. The read signal is used to take the output buffers out of their high impedance state and drive data onto the data bus. The signal is internally gated with the CS signal. Both R\D\ and C\S\ must be logic (See Datasheet)", 7 DGND (power) "Digital Ground. Ground reference for digital circuitry.", 8 ~{EOC} (out) "Logic Output. The end of conversion signal indicates when a conversion has finished. The signal can be used to interrupt a microcontroller when a conversion has finished or latch data into a gate array (see the Parallel (See Datasheet)", 9 A2 (in) "Channel Address Inputs. The address of the next multiplexer channel must be present on these inputs when the R\D\ signal goes low.", 10 A1 (in) "Channel Address Inputs. The address of the next multiplexer channel must be present on these inputs when the R\D\ signal goes low.", 11 A0 (in) "Channel Address Inputs. The address of the next multiplexer channel must be present on these inputs when the R\D\ signal goes low.", 12 VIN8 (in) "Analog Input Channels. The AD7829-1 has eight analog input channels. The inputs have an input span of 2.5 V and 2 V, depending on the supply voltage (VDD). This span can be centered anywhere in the range AGND to VDD using (See Datasheet)", 13 VIN7 (in) "Analog Input Channels. The AD7829-1 has eight analog input channels. The inputs have an input span of 2.5 V and 2 V, depending on the supply voltage (VDD). This span can be centered anywhere in the range AGND to VDD using (See Datasheet)", 14 VIN6 (in) "Analog Input Channels. The AD7829-1 has eight analog input channels. The inputs have an input span of 2.5 V and 2 V, depending on the supply voltage (VDD). This span can be centered anywhere in the range AGND to VDD using (See Datasheet)", 15 VIN5 (in) "Analog Input Channels. The AD7829-1 has eight analog input channels. The inputs have an input span of 2.5 V and 2 V, depending on the supply voltage (VDD). This span can be centered anywhere in the range AGND to VDD using (See Datasheet)", 16 VIN4 (in) "Analog Input Channels. The AD7829-1 has eight analog input channels. The inputs have an input span of 2.5 V and 2 V, depending on the supply voltage (VDD). This span can be centered anywhere in the range AGND to VDD using (See Datasheet)", 17 VIN3 (in) "Analog Input Channels. The AD7829-1 has eight analog input channels. The inputs have an input span of 2.5 V and 2 V, depending on the supply voltage (VDD). This span can be centered anywhere in the range AGND to VDD using (See Datasheet)", 18 VIN2 (in) "Analog Input Channels. The AD7829-1 has eight analog input channels. The inputs have an input span of 2.5 V and 2 V, depending on the supply voltage (VDD). This span can be centered anywhere in the range AGND to VDD using (See Datasheet)", 19 VIN1 (in) "Analog Input Channels. The AD7829-1 has eight analog input channels. The inputs have an input span of 2.5 V and 2 V, depending on the supply voltage (VDD). This span can be centered anywhere in the range AGND to VDD using (See Datasheet)", 20 VMID (in) "The VMID pin, if connected, is used to center the analog input span anywhere in the range of AGND to VDD (see the Analog Input section).", 21 VREF IN/OUT (io) "Analog Input and Output. An external reference can be connected to the AD7829-1 at this pin. The on-chip reference is also available at this pin. When using the internal reference, this pin can be left unconnected or, in (See Datasheet)", 22 VDD (power) "Positive Supply Voltage, 3 V +/- 10% and 5 V +/- 10%.", 23 AGND (power) "Analog Ground. Ground reference for track/hold, comparators, reference circuit, and multiplexer.", 24 DB7 (hiz) "Data Output Lines. They are normally held in a high impedance state. Data is driven onto the data bus when both R\D\ and C\S\ go active low.", 25 DB6 (hiz) "Data Output Lines. They are normally held in a high impedance state. Data is driven onto the data bus when both R\D\ and C\S\ go active low.", 26 DB5 (hiz) "Data Output Lines. They are normally held in a high impedance state. Data is driven onto the data bus when both R\D\ and C\S\ go active low.", 27 DB4 (hiz) "Data Output Lines. They are normally held in a high impedance state. Data is driven onto the data bus when both R\D\ and C\S\ go active low.", 28 DB3 (hiz) "Data Output Lines. They are normally held in a high impedance state. Data is driven onto the data bus when both R\D\ and C\S\ go active low."